# Altium schematic symbol library ARM_PLUGALL.SCHLIB: 13 symbols
Pins are listed as number, name and electrical type; pins without a type are passive.

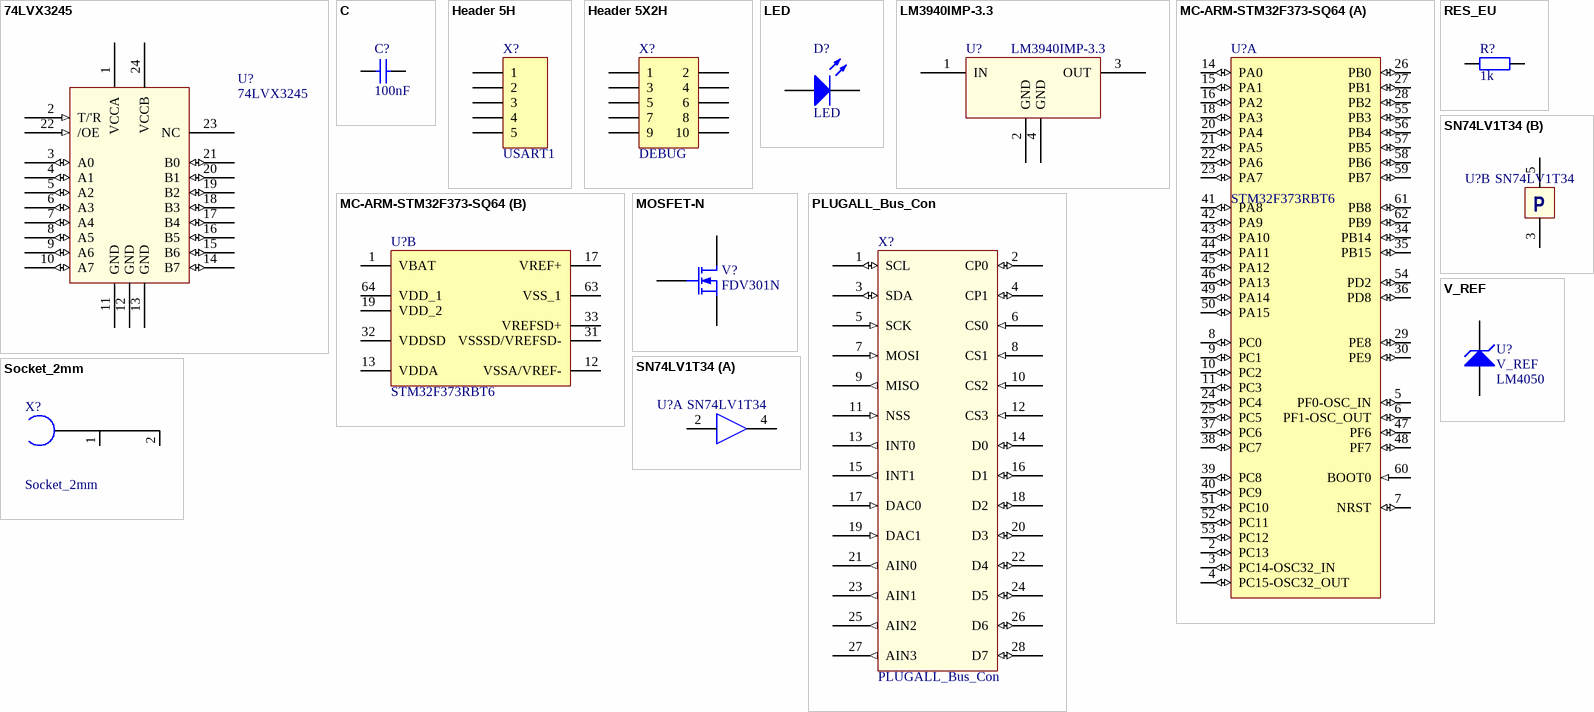
[diagram p0: symbols 74LVX3245 to V_REF]

## 74LVX3245
designator U?
footprint TSSOP24
pins: 1 VCCA (power), 2 T/'R (in), 3 A0 (io), 4 A1 (io), 5 A2 (io), 6 A3 (io), 7 A4 (io), 8 A5 (io), 9 A6 (io), 10 A7 (io), 11 GND (power), 12 GND (power), 13 GND (power), 14 B7 (io), 15 B6 (io), 16 B5 (io), 17 B4 (io), 18 B3 (io), 19 B2 (io), 20 B1 (io), 21 B0 (io), 22 /OE (in), 23 NC, 24 VCCB (power)

## C
designator C?  value 100nF  (hidden comment: C)
footprint 1206
footprint 1210
footprint 0805
pins: 1, 2

## Header 5H
designator X?, comment USART1
Header, 5-Pin, Right Angle; LatestRevisionDate: 17-Jul-2002; LatestRevisionNote: Re-released for DXP Platform.; Publisher: Altium Limited
footprint HDR1X5H (Connector; Header; 5 Position; Right Angle)
signal-integrity model Connector
pins: 1, 2, 3, 4, 5

## Header 5X2H
designator X?, comment DEBUG
Header, 5-Pin, Dual row, Right Angle; LatestRevisionDate: 17-Jul-2002; LatestRevisionNote: Re-released for DXP Platform.; Publisher: Altium Limited
footprint HDR2X5H (Connector; Header; 5x2 Position; Right Angle)
signal-integrity model Connector
pins: 1, 2, 3, 4, 5, 6, 7, 8, 9, 10

## LED
designator D?
footprint D_0603
pins: 1 A, 2 K

## LM3940IMP-3.3
designator U?
footprint SOT-223
pins: 1 IN, 2 GND, 3 OUT, 4 GND

## MC-ARM-STM32F373-SQ64
designator U?, comment STM32F373RBT6
ARM Cortex-M4 32-bit MCU, 128 KB Flash, 24 KB Internal RAM, 52 I/Os, 64-pin LQFP, -40 to 85 degC, Tray; FLASH Size (Prog) (kB): 128; Operating Frequency(F) (Processor speed) (MHz): 72; Supply Voltage(Vcc) min (V): 2; Internal RAM Size (kB): 24; I/Os (High Current): 52; PackageVersion: Rev. 4, 06/2013; Core: ARM Cortex-M4; Packing: Tray; ComponentLink2URL: http://www.st.com/st-web-ui/static/active/en/resource/technical/document/datasheet/DM00046749.pdf; PackageReference: LQFP64; PartNumber: STM32F373RBT6; ComponentLink1URL: http://www.st.com/web/en/home.html; ComponentLink1Description: Manufacturer URL; PackageDescription: 64-Pin Low Profile Quad Flat Package, 10 x 10 mm Body, 0.5 mm Pitch; DatasheetVersion: Rev. 3; ComponentLink3Description: Package Specification; ComponentLink2Description: Datasheet; Mounting Technology: Surface Mount; ComponentLink3URL: http://www.st.com/st-web-ui/static/active/en/resource/technical/document/datasheet/DM00037051.pdf
footprint STM-LQFP64_V (Thin QFP, 64-Leads, Body 10x10mm, Pitch 0.5mm, ST Recommended)
footprint STM-LQFP64_M (Thin QFP, 64-Leads, Body 10x10mm, Pitch 0.5mm, IPC Low Density)
footprint STM-LQFP64_N (Thin QFP, 64-Leads, Body 10x10mm, Pitch 0.5mm, IPC Medium Density)
footprint STM-LQFP64_L (Thin QFP, 64-Leads, Body 10x10mm, Pitch 0.5mm, IPC High Density)
part A pins: 2 PC13 (io) "PC13/WKUP2_ALARM_OUT_CALIB_OUT_TIMESTAMP,RTC_TAMPER1", 3 PC14-OSC32_IN (io) "PC14-OSC32_IN/OSC32_IN", 4 PC15-OSC32_OUT (io) "PC15-OSC32_OUT/OSC32_OUT", 5 PF0-OSC_IN (io) "PF0-OSC_IN/I2C2_SDA/OSC_IN", 6 PF1-OSC_OUT (io) "PF1-OSC_OUT/I2C2_SCL/OSC_OUT", 7 NRST (io), 8 PC0 (io) "PC0/TIM5_CH1_ETR/ADC_IN10", 9 PC1 (io) "PC1/TIM5_CH2/ADCIN11", 10 PC2 (io) "PC2/SPI2_MISO/I2S2_MCK,TIM5_CH3/ADC_IN12", 11 PC3 (io) "PC3/SPI2_MOSI/I2S2_SD,TIM5_CH4/ADC_IN13", 14 PA0 (io) "PA0/USART2_CTS,TIM2_CH1_ETR,TIM5_CH1_ETR,TIM19_CH1,TSC_G1_IO1,COMP1_OUT/RTC_TAMPER2,WKUP1,ADC_IN0,COMP1_INM", 15 PA1 (io) "PA1/SPI3_SCK/I2S3_CK,USART2_RTS,TIM2_CH2,TIM15_CH1N,TIM5_CH2,TIM19_CH2,TSC_G1_IO2/ADC_IN1,COMP1_INP,RTC_REF_CLK_IN", 16 PA2 (io) "PA2/COMP2_OUT,SPI3_MISO/I2S3_MCK,USART2_TX,TIM2_CH3,TIM15_CH1,TIM5_CH3,TIM19_CH3,TSC_G1_IO3/ADC_IN2,COMP2_INM", 18 PA3 (io) "PA3/SPI3_MOSI,I2S3_SD,USART2_RX,TIM2_CH4,TIM15_CH2,TIM5_CH4,TIM19_CH4,TSC_G1_IO4/ADC_IN3,COMP2_INP", 20 PA4 (io) "PA4/SPI1_NSS/I2S1_WS,SPI3_NSS/I2S3_WS,USART2_CK,TIM3_CH2,TIM12_CH1,TSC_G2_IO1/ADC_IN4,DAC1_OUT1", 21 PA5 (io) "PA5/SPI1_SCK/I2S1_CK,CEC,TIM2_CH1_ETR,TIM14_CH1,TIM12_CH2,TSC_G2_IO2/ADC_IN5,DAC1_OUT2", 22 PA6 (io) "PA6/SPI1_MISO/I2S1_MCK,COMP1_OUT,TIM3_CH1,TIM13_CH1,TIM16_CH1,TSC_G2_IO3/ADC_IN6,DAC2_OUT1", 23 PA7 (io) "PA7/TSC_G2_IO4,TIM14_CH1,SPI1_MOSI/I2S1_SD,TIM17_CH1,TIM3_CH2,COMP2_OUT/ADC_IN7", 24 PC4 (io) "PC4/TIM13_CH1,TSC_G3_IO1,USART1_TX/ADC_IN14", 25 PC5 (io) "PC5/TSC_G3_IO2,USART1_RX/ADC_IN15", 26 PB0 (io) "PB0/SPI1_MOSI/I2S1_SD,TIM3_CH3,TSC_G3_IO3,TIM3_CH2/ADC_IN8,SDADC1_AIN6P", 27 PB1 (io) "PB1/TIM3_CH4,TSC_G3_IO4/ADC_IN9,SDADC1_AIN5P,SDADC1_AIN6M", 28 PB2 (io) "PB2/SDADC1_AIN4P,SDADC2_AIN6P", 29 PE8 (io) "PE8/SDADC1_AIN8P,SDADC2_AIN8P", 30 PE9 (io) "PE9/SDADC1_AIN7P,SDADC1_AIN8M,SDADC2_AIN7P,SDADC2_AIN8M", 34 PB14 (io) "PB14/SPI2_MISO/I2S2_MCK,USART3_RTS,TIM15_CH1,TIM12_CH1,TSC_G6_IO1/SDADC3_AIN8P", 35 PB15 (io) "PB15/SPI2_MOSI/I2S2_SD,TIM15_CH1N,TIM15_CH2,TIM12_CH2,TSC_G6_IO2/SDADC3_AIN7P,SDADC3_AIN8M,RTC_REFCLKIN", 36 PD8 (io) "PD8/SPI2_SCK/I2S2_CK,USART3_TX,TSC_G6_IO3/SDADC3_AIN6P", 37 PC6 (io) "PC6/TIM3_CH1,SPI1_NSS/I2S1_WS", 38 PC7 (io) "PC7/TIM3_CH2,SPI1_SCK/I2S1_CK", 39 PC8 (io) "PC8/SPI1_MISO/I2S1_MCK,TIM3_CH3", 40 PC9 (io) "PC9/SPI1_MOSI/I2S1_SD,TIM3_CH4", 41 PA8 (io) "PA8/SPI2_SCK/I2S2_CK,I2C2_SMBA,USART1_CK,TIM4_ETR,TIM5_CH1_ETR,MCO", 42 PA9 (io) "PA9/SPI2_MISO/I2S2_MCK,I2C2_SCL,USART1_TX,TIM2_CH3,TIM15_BKIN,TIM13_CH1,TSC_G4_IO1", 43 PA10 (io) "PA10/SPI2_MOSI/I2S2_SD,I2C2_SDA,USART1_RX,TIM2_CH4,TIM17_BKIN,TIM14_CH1,TSC_G4_IO2", 44 PA11 (io) "PA11/SPI2_NSS/I2S2_WS,SPI1_NSS/I2S1_WS,USART1_CTS,CAN_RX,TIM4_CH1,USB_DM,TIM5_CH2,COMP1_OUT", 45 PA12 (io) "PA12/SPI1_SCK/I2S1_CK,USART1_RTS,CAN_TX,USB_DP,TIM16_CH1,TIM4_CH2,TIM5_CH3,COMP2_OUT", 46 PA13 (io) "PA13/SPI1_MISO/I2S1_MCK,USART3_CTS,IR_OUT,TIM16_CH1N,TIM4_CH3,TIM5_CH4,TSC_G4_IO3,SWDIO-JTMS", 47 PF6 (io) "PF6/SPI1_MOSI,I2S1_SD,USART3_RTS,TIM4_CH4,I2C2_SCL", 48 PF7 (io) "PF7/I2C2_SDA,USART2_CK", 49 PA14 (io) "PA14/I2C1_SDA,TIM12_CH1,TSC_G4_IO4,SWCLK-JTCK", 50 PA15 (io) "PA15/SPI1_NSS/I2S1_WS,SPI3_NSS/I2S3_WS,I2C1_SCL,TIM2_CH1_ETR,TIM12_CH2,TSC_SYNC,JTDI", 51 PC10 (io) "PC10/SPI3_SCK/I2S3_CK,USART3_TX,TIM19_CH1", 52 PC11 (io) "PC11/SPI3_MISO/I2S3_MCK,USART3_RX,TIM19_CH2", 53 PC12 (io) "PC12/SPI3_MOSI/I2S3_SD,USART3_CK,TIM19_CH3", 54 PD2 (io) "PD2/TIM3_ETR", 55 PB3 (io) "PB3/SPI1_SCK/I2S1_CK,SPI3_SCK/I2S3_CK,USART2_TX,TIM2_CH2,TIM3_ETR,TIM4_ETR,TIM13_CH1,TSC_G5_IO1,JTDO-TRACESWO", 56 PB4 (io) "PB4/SPI1_MISO/I2S1_MCK,SPI3_MISO/I2S3_MCK,USART2_RX,TIM16_CH1,TIM3_CH1,TIM17_BKIN,TIM15_CH1N,TSC_G5_IO2,NJTRST", 57 PB5 (io) "PB5/SPI1_MOSI/I2S1_SD,SPI3_MOSI/I2S3_SD,I2C1_SMBAI,USART2_CK,TIM16_BKIN,TIM3_CH2,TIM17_CH1,TIM19_ETR", 58 PB6 (io) "PB6/I2C1_SCL,USART1_TX,TIM16_CH1N,TIM3_CH3,TIM4_CH1,TIM19_CH1,TIM15_CH1,TSC_G5_IO3", 59 PB7 (io) "PB7/I2C1_SDA,USART1_RX,TIM17_CH1N,TIM3_CH4,TIM4_CH2,TIM19_CH2,TIM15_CH2,TSC_G5_IO4", 60 BOOT0 (in) "Boot memory selection", 61 PB8 (io) "PB8/SPI2_SCK/I2S2_CK,I2C1_SCL,USART3_TX,CAN_RX,CEC,TIM16_CH1,TIM4_CH3,TIM19_CH3,COMP1_OUT,TSC_SYNC", 62 PB9 (io) "PB9/SPI2_NSS/I2S2_WS,I2C1_SDA,USART3_RX,CAN_TX,IR_OUT,TIM17_CH1,TIM4_CH4,TIM19_CH4,COMP2_OUT"
part B pins: 1 VBAT (power) "Backup power supply", 12 VSSA/VREF- (power) "Analog ground", 13 VDDA (power) "Analog power supply", 17 VREF+ (power) "Reference voltage for ADC, COMP, DAC", 19 VDD_2 (power) "Digital power supply", 31 VSSSD/VREFSD- (power) "SDADC1, SDADC2, SDADC3 ground / External reference voltage for SDADC1, SDADC2, SDADC3 (negative input)", 32 VDDSD (power) "SDADC1, SDADC2, SDADC3 power supply", 33 VREFSD+ (power) "External reference voltage for SDADC1, SDADC2, SDADC3 (positive input)", 63 VSS_1 (power) "Ground", 64 VDD_1 (power) "Digital power supply"

## MOSFET-N
designator V?, comment FDV301N
footprint SOT-23; pin to pad 1>3 2>1 3>2
pins: 1 D, 2 G, 3 S

## PLUGALL_Bus_Con
designator X?
PLUGALL Card Connector
footprint CON14X2
pins: 1 SCL (io), 2 CP0 (io) "I2C Clock", 3 SDA (io), 4 CP1 (io), 5 SCK (in), 6 CS0 (in), 7 MOSI (in), 8 CS1 (in), 9 MISO (out), 10 CS2 (in), 11 NSS (in), 12 CS3 (in), 13 INT0 (out), 14 D0 (io), 15 INT1 (out), 16 D1 (io), 17 DAC0 (in), 18 D2 (io), 19 DAC1 (in), 20 D3 (io), 21 AIN0 (out), 22 D4 (io), 23 AIN1 (out), 24 D5 (io), 25 AIN2 (out), 26 D6 (io), 27 AIN3 (out), 28 D7 (io)

## RES_EU
designator R?, comment value 1k  (hidden comment: R)
footprint R_0603
footprint 0805 (Footprint not found)
pins: 1, 2

## SN74LV1T34
designator U?
footprint DCK
part A pins: 2 IN, 4 OUT
part B pins: 3 GND (power), 5 VCC (power)
part B text: P

## Socket_2mm
designator X?
footprint 2MM_BANANA
pins: 1 (power), 2 (power)

## V_REF
designator U?  value LM4050
footprint SOT-23
pins: 1 K, 2 A